# Altium footprint library Pin Headers TH.PcbLib: 17 footprints (part 2 of 2)
Each footprint in its own frame and in the unit in brackets; x right, y up, seen from the top. Pads: shape width x height; smd on the part's side, far side on the other; paste and mask are expansions set on the pad; w line width, h text height; cw(c..) or ccw(c..) is an arc to the next point about the centre after c.
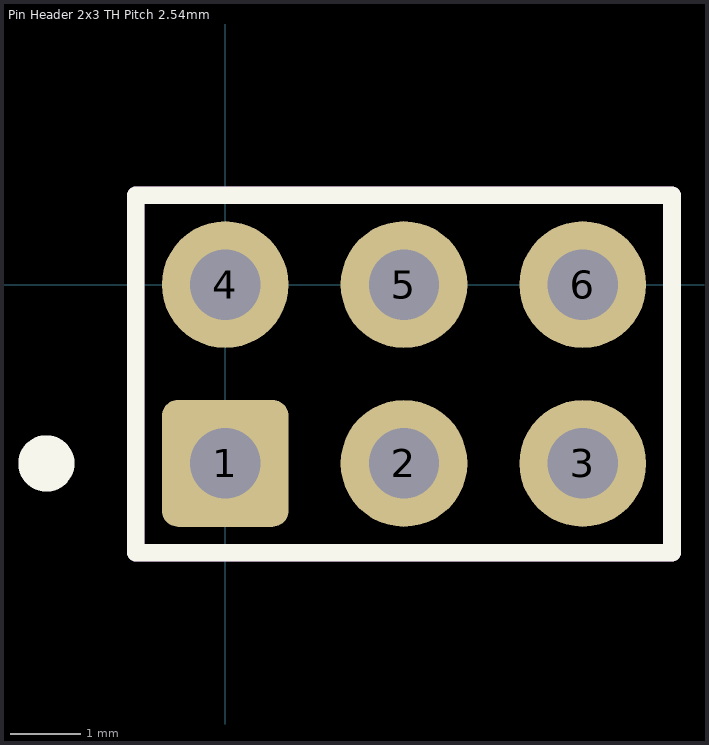
[diagram p1: the footprint, top view; thin cyan lines are the x and y axes]

## Pin Header 2x3 TH Pitch 2.54mm [mm] "PinHeader 1x3 TH Pitch 2.54mm"
height 9.5
pads (6):
  rrect25% 1.8x1.8 hole 1: 1(0,-2.54)
  round 1.8 hole 1: 2(2.54,-2.54) 3(5.08,-2.54) 4(0,0) 5(2.54,0) 6(5.08,0)
Top Overlay:
  circle w0.5: c-2.54,-2.54 r0.15
  lines w0.254: 1.27,1.27 -1.27,1.27 ; -1.27,1.27 -1.27,-1.27 -1.27,-3.81 6.35,-3.81 6.35,-1.27 6.35,1.27 -1.27,1.27
Mechanical 3:
  lines w0.254: 1.27,1.27 -1.27,1.27 ; -1.27,1.27 -1.27,-1.27 -1.27,-3.81 6.35,-3.81 6.35,-1.27 6.35,1.27 -1.27,1.27
3D body "Pin Header 1x3 TH Pitch 2.54mm.stp": height 9.5, standoff -3.2, extent -1.27,-3.81 6.35,-1.27
3D body "Pin Header 1x3 TH Pitch 2.54mm.stp": height 9.5, standoff -3.2, extent -1.27,-1.27 6.35,1.27
3D body "Pin Header 1x3 TH Pitch 2.54mm.stp": height 9.5, standoff -3.2, extent -1.27,-3.81 6.35,-1.27
3D body "Pin Header 1x3 TH Pitch 2.54mm.stp": height 9.5, standoff -3.2, extent -1.27,-1.27 6.35,1.27